# Altium integrated library TI_Logic_Gate.IntLib: 2017 symbols (part 49 of 56)
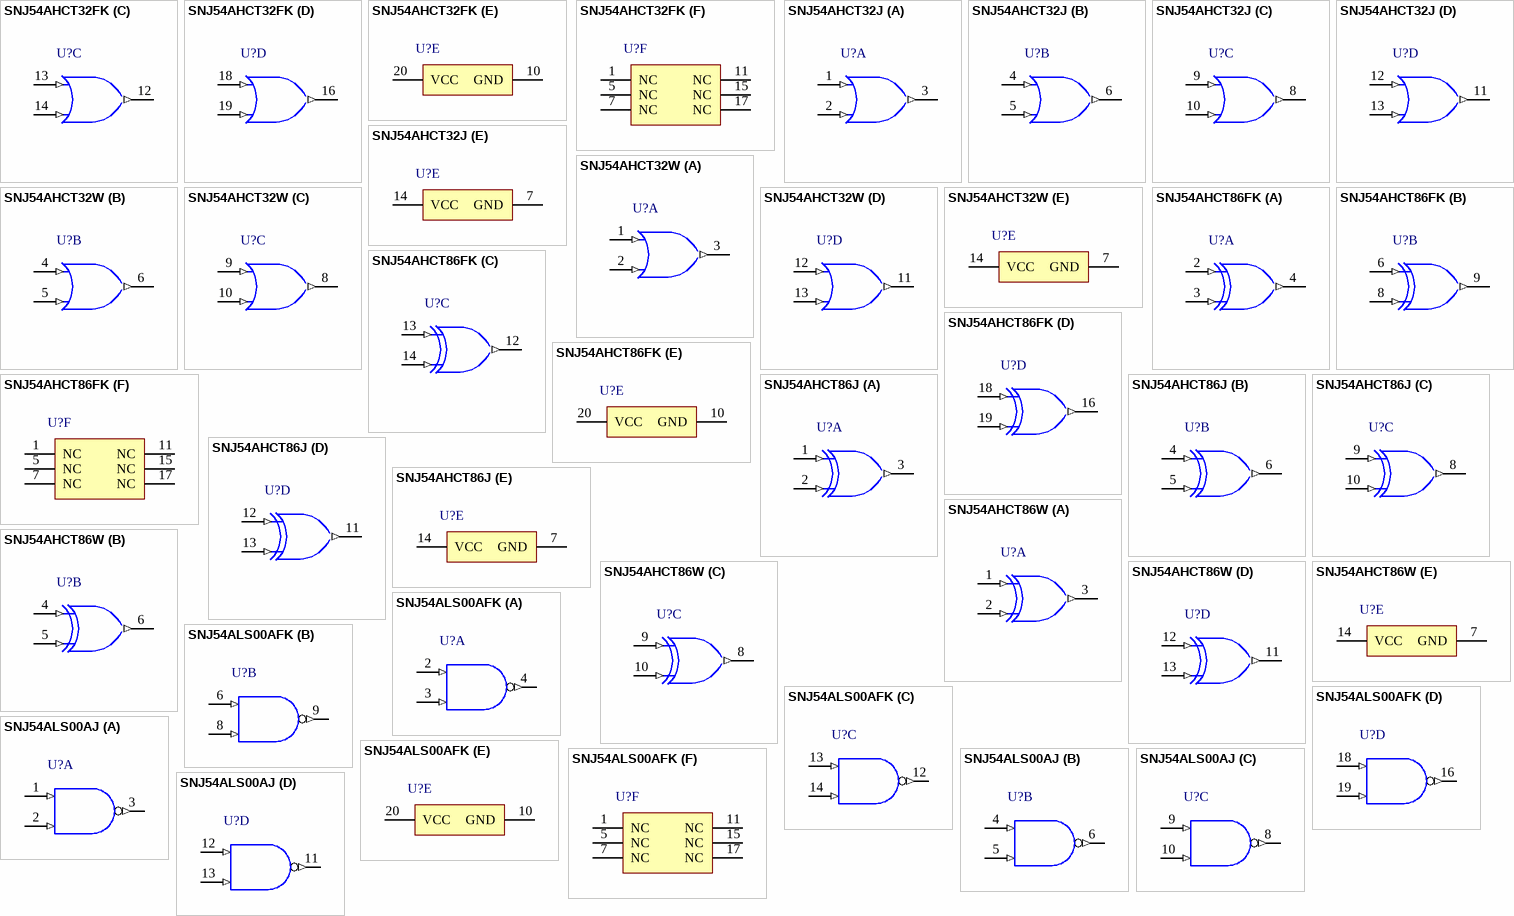
[diagram p273: symbols SNJ54AHCT32FK to SNJ54ALS00AJ]

## SNJ54AHCT86W
designator U?
Quadruple 2-Input Exclusive-OR Gates, W0014A, TUBE; Generic Part Number: SN54AHCT86; Manufacturer: Texas Instruments; PartNumber: SNJ54AHCT86W; VCC(Min)(V): 4.5; VCC(Max)(V): 5.5; Output Type: CMOS; Input Type: TTL; Rating: Military; Technology Family: AHCT; Schmitt Trigger: No; DatasheetVersion: SCLS250N; PackageReference: W0014A; Operating Temperature Range(C): -55 to 125; ComponentLink1Description: Manufacturer URL; ComponentLink1URL: http://www.ti.com/; ComponentLink2Description: Datasheet; ComponentLink2URL: http://www.ti.com/lit/ds/symlink/sn54ahct86.pdf
footprint W0014A_N (CFP, 14-Leads, Body 9.91x6.6mm, Pitch 1.27mm, IPC Medium Density)
footprint W0014A_M (CFP, 14-Leads, Body 9.91x6.6mm, Pitch 1.27mm, IPC Low Density)
footprint W0014A_L (CFP, 14-Leads, Body 9.91x6.6mm, Pitch 1.27mm, IPC High Density)
part A pins: 1 1A (in), 2 1B (in), 3 1Y (out)
part B pins: 4 2A (in), 5 2B (in), 6 2Y (out)
part C pins: 8 3Y (out), 9 3A (in), 10 3B (in)
part D pins: 11 4Y (out), 12 4A (in), 13 4B (in)
part E pins: 7 GND (power), 14 VCC (power)

## SNJ54ALS00AFK
designator U?
Quadruple 2-Input Positive-NAND Gates, FK0020A, TUBE; Generic Part Number: SN54ALS00A; Manufacturer: Texas Instruments; PartNumber: SNJ54ALS00AFK; VCC(Min)(V): 4.5; VCC(Max)(V): 5.5; Output Type: TTL; Rating: Military; Technology Family: ALS; Schmitt Trigger: No; DatasheetVersion: SDAS187A; PackageReference: FK0020A; Input Type: TTL; Operating Temperature Range(C): -55 to 125; Code_JEDEC: MS-004; ComponentLink1Description: Manufacturer URL; ComponentLink1URL: http://www.ti.com/; ComponentLink2Description: Datasheet; ComponentLink2URL: http://www.ti.com/lit/ds/symlink/sn54als00a.pdf; ComponentLink3Description: Package Specification; ComponentLink3URL: http://www.ti.com/lit/ml/mlcc006d/mlcc006d.pdf
footprint FK0020A_N (LCC, 20-Leads, Body 8.9x8.9mm, Pitch 1.27mm, IPC Medium Density)
footprint FK0020A_M (LCC, 20-Leads, Body 8.9x8.9mm, Pitch 1.27mm, IPC Low Density)
footprint FK0020A_L (LCC, 20-Leads, Body 8.9x8.9mm, Pitch 1.27mm, IPC High Density)
part A pins: 2 1A (in), 3 1B (in), 4 1Y (out)
part B pins: 6 2A (in), 8 2B (in), 9 2Y (out)
part C pins: 12 3Y (out), 13 3A (in), 14 3B (in)
part D pins: 16 4Y (out), 18 4A (in), 19 4B (in)
part E pins: 10 GND (power), 20 VCC (power)
part F pins: 1 NC, 5 NC, 7 NC, 11 NC, 15 NC, 17 NC

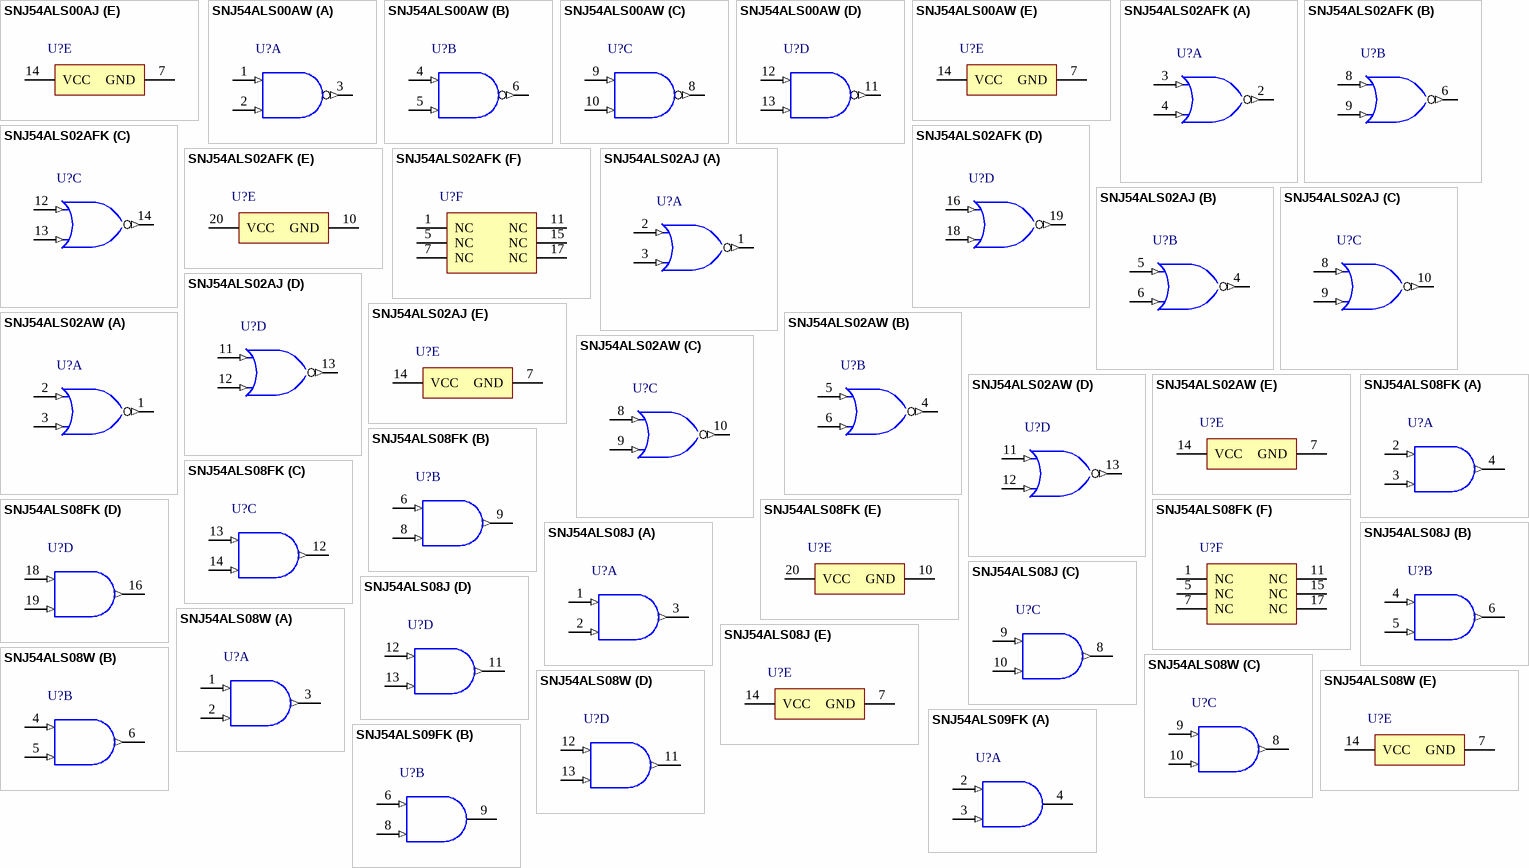
[diagram p193: symbols SNJ54ALS00AJ to SNJ54ALS09FK]

## SNJ54ALS00AJ
designator U?
Quadruple 2-Input Positive-NAND Gates, J0014A, TUBE; Generic Part Number: SN54ALS00A; Manufacturer: Texas Instruments; PartNumber: SNJ54ALS00AJ; VCC(Min)(V): 4.5; VCC(Max)(V): 5.5; Output Type: TTL; Rating: Military; Technology Family: ALS; Schmitt Trigger: No; DatasheetVersion: SDAS187A; PackageReference: J0014A; Input Type: TTL; Operating Temperature Range(C): -55 to 125; ComponentLink1Description: Manufacturer URL; ComponentLink1URL: http://www.ti.com/; ComponentLink2Description: Datasheet; ComponentLink2URL: http://www.ti.com/lit/ds/symlink/sn54als00a.pdf; ComponentLink3Description: Package Specification; ComponentLink3URL: http://www.ti.com/lit/ml/mcer002d/mcer002d.pdf
footprint J0014A (DIP, 14-Leads, Body 19.95x7.2mm, Pitch 2.54mm)
part A pins: 1 1A (in) "Gate 1 input", 2 1B (in) "Gate 1 input", 3 1Y (out) "Gate 1 output"
part B pins: 4 2A (in) "Gate 2 input", 5 2B (in) "Gate 2 input", 6 2Y (out) "Gate 2 output"
part C pins: 8 3Y (out) "Gate 3 output", 9 3A (in) "Gate 3 input", 10 3B (in) "Gate 3 input"
part D pins: 11 4Y (out) "Gate 4 output", 12 4A (in) "Gate 4 input", 13 4B (in) "Gate 4 input"
part E pins: 7 GND (power) "Ground Pin", 14 VCC (power) "Power Pin"

## SNJ54ALS00AW
designator U?
Quadruple 2-Input Positive-NAND Gates, W0014A, TUBE; Generic Part Number: SN54ALS00A; Manufacturer: Texas Instruments; PartNumber: SNJ54ALS00AW; VCC(Min)(V): 4.5; VCC(Max)(V): 5.5; Output Type: TTL; Rating: Military; Technology Family: ALS; Schmitt Trigger: No; DatasheetVersion: SDAS187A; PackageReference: W0014A; Input Type: TTL; Operating Temperature Range(C): -55 to 125; ComponentLink1Description: Manufacturer URL; ComponentLink1URL: http://www.ti.com/; ComponentLink2Description: Datasheet; ComponentLink2URL: http://www.ti.com/lit/ds/symlink/sn54als00a.pdf; ComponentLink3Description: Package Specification; ComponentLink3URL: http://www.ti.com/lit/ml/mcfp002c/mcfp002c.pdf
footprint W0014A_N (CFP, 14-Leads, Body 9.91x6.6mm, Pitch 1.27mm, IPC Medium Density)
footprint W0014A_M (CFP, 14-Leads, Body 9.91x6.6mm, Pitch 1.27mm, IPC Low Density)
footprint W0014A_L (CFP, 14-Leads, Body 9.91x6.6mm, Pitch 1.27mm, IPC High Density)
part A pins: 1 1A (in) "Gate 1 input", 2 1B (in) "Gate 1 input", 3 1Y (out) "Gate 1 output"
part B pins: 4 2A (in) "Gate 2 input", 5 2B (in) "Gate 2 input", 6 2Y (out) "Gate 2 output"
part C pins: 8 3Y (out) "Gate 3 output", 9 3A (in) "Gate 3 input", 10 3B (in) "Gate 3 input"
part D pins: 11 4Y (out) "Gate 4 output", 12 4A (in) "Gate 4 input", 13 4B (in) "Gate 4 input"
part E pins: 7 GND (power) "Ground Pin", 14 VCC (power) "Power Pin"

## SNJ54ALS02AFK
designator U?
Quadruple 2-Input Positive-NOR Gates, FK0020A, TUBE; Generic Part Number: SN54ALS02A; Manufacturer: Texas Instruments; PartNumber: SNJ54ALS02AFK; VCC(Min)(V): 4.5; VCC(Max)(V): 5.5; Output Type: TTL; Bits(#): 4; Rating: Military; tpd @ Nom Voltage(Max)(ns): 16; DatasheetVersion: SDAS111B; PackageReference: FK0020A; Input Type: TTL; Operating Temperature Range(C): -55 to 125; Code_JEDEC: MS-004; ComponentLink1Description: Manufacturer URL; ComponentLink1URL: http://www.ti.com/; ComponentLink2Description: Datasheet; ComponentLink2URL: http://www.ti.com/lit/ds/symlink/sn54als02a.pdf; ComponentLink3Description: Package Specification; ComponentLink3URL: http://www.ti.com/lit/ml/mlcc006d/mlcc006d.pdf
footprint FK0020A_N (LCC, 20-Leads, Body 8.9x8.9mm, Pitch 1.27mm, IPC Medium Density)
footprint FK0020A_M (LCC, 20-Leads, Body 8.9x8.9mm, Pitch 1.27mm, IPC Low Density)
footprint FK0020A_L (LCC, 20-Leads, Body 8.9x8.9mm, Pitch 1.27mm, IPC High Density)
part A pins: 2 1Y (out), 3 1A (in), 4 1B (in)
part B pins: 6 2Y (out), 8 2A (in), 9 2B (in)
part C pins: 12 3A (in), 13 3B (in), 14 3Y (out)
part D pins: 16 4A (in), 18 4B (in), 19 4Y (out)
part E pins: 10 GND (power), 20 VCC (power)
part F pins: 1 NC, 5 NC, 7 NC, 11 NC, 15 NC, 17 NC

## SNJ54ALS02AJ
designator U?
Quadruple 2-Input Positive-NOR Gates, J0014A, TUBE; Generic Part Number: SN54ALS02A; Manufacturer: Texas Instruments; PartNumber: SNJ54ALS02AJ; VCC(Min)(V): 4.5; VCC(Max)(V): 5.5; Output Type: TTL; Bits(#): 4; Rating: Military; tpd @ Nom Voltage(Max)(ns): 16; DatasheetVersion: SDAS111B; PackageReference: J0014A; Input Type: TTL; Operating Temperature Range(C): -55 to 125; ComponentLink1Description: Manufacturer URL; ComponentLink1URL: http://www.ti.com/; ComponentLink2Description: Datasheet; ComponentLink2URL: http://www.ti.com/lit/ds/symlink/sn54als02a.pdf; ComponentLink3Description: Package Specification; ComponentLink3URL: http://www.ti.com/lit/ml/mcer002d/mcer002d.pdf
footprint J0014A (DIP, 14-Leads, Body 19.95x7.2mm, Pitch 2.54mm)
part A pins: 1 1Y (out) "1Y output", 2 1A (in) "1A input", 3 1B (in) "1B input"
part B pins: 4 2Y (out) "2Y output", 5 2A (in) "2A input", 6 2B (in) "2B input"
part C pins: 8 3A (in) "3A input", 9 3B (in) "3B input", 10 3Y (out) "3Y output"
part D pins: 11 4A (in) "4A input", 12 4B (in) "4B input", 13 4Y (out) "4Y output"
part E pins: 7 GND (power), 14 VCC (power)

## SNJ54ALS02AW
designator U?
Quadruple 2-Input Positive-NOR Gates, W0014A, TUBE; Generic Part Number: SN54ALS02A; Manufacturer: Texas Instruments; PartNumber: SNJ54ALS02AW; VCC(Min)(V): 4.5; VCC(Max)(V): 5.5; Output Type: TTL; Bits(#): 4; Rating: Military; tpd @ Nom Voltage(Max)(ns): 16; DatasheetVersion: SDAS111B; PackageReference: W0014A; Input Type: TTL; Operating Temperature Range(C): -55 to 125; ComponentLink1Description: Manufacturer URL; ComponentLink1URL: http://www.ti.com/; ComponentLink2Description: Datasheet; ComponentLink2URL: http://www.ti.com/lit/ds/symlink/sn54als02a.pdf; ComponentLink3Description: Package Specification; ComponentLink3URL: http://www.ti.com/lit/ml/mcfp002c/mcfp002c.pdf
footprint W0014A_N (CFP, 14-Leads, Body 9.91x6.6mm, Pitch 1.27mm, IPC Medium Density)
footprint W0014A_M (CFP, 14-Leads, Body 9.91x6.6mm, Pitch 1.27mm, IPC Low Density)
footprint W0014A_L (CFP, 14-Leads, Body 9.91x6.6mm, Pitch 1.27mm, IPC High Density)
part A pins: 1 1Y (out) "1Y output", 2 1A (in) "1A input", 3 1B (in) "1B input"
part B pins: 4 2Y (out) "2Y output", 5 2A (in) "2A input", 6 2B (in) "2B input"
part C pins: 8 3A (in) "3A input", 9 3B (in) "3B input", 10 3Y (out) "3Y output"
part D pins: 11 4A (in) "4A input", 12 4B (in) "4B input", 13 4Y (out) "4Y output"
part E pins: 7 GND (power), 14 VCC (power)

## SNJ54ALS08FK
designator U?
Quadruple 2-Input Positive-AND Gates, FK0020A, TUBE; Generic Part Number: SN54ALS08; Manufacturer: Texas Instruments; PartNumber: SNJ54ALS08FK; VCC(Min)(V): 4.5; VCC(Max)(V): 5.5; Output Type: TTL; Rating: Military; Technology Family: ALS; Schmitt Trigger: No; tpd @ Nom Voltage(Max)(ns): 14; DatasheetVersion: SDAS191A; PackageReference: FK0020A; Input Type: TTL; Operating Temperature Range(C): -55 to 125; Code_JEDEC: MS-004; ComponentLink1Description: Manufacturer URL; ComponentLink1URL: http://www.ti.com/; ComponentLink2Description: Datasheet; ComponentLink2URL: http://www.ti.com/lit/ds/symlink/sn54als08.pdf; ComponentLink3Description: Package Specification; ComponentLink3URL: http://www.ti.com/lit/ml/mlcc006d/mlcc006d.pdf
footprint FK0020A_N (LCC, 20-Leads, Body 8.9x8.9mm, Pitch 1.27mm, IPC Medium Density)
footprint FK0020A_M (LCC, 20-Leads, Body 8.9x8.9mm, Pitch 1.27mm, IPC Low Density)
footprint FK0020A_L (LCC, 20-Leads, Body 8.9x8.9mm, Pitch 1.27mm, IPC High Density)
part A pins: 2 1A (in), 3 1B (in), 4 1Y (out)
part B pins: 6 2A (in), 8 2B (in), 9 2Y (out)
part C pins: 12 3Y (out), 13 3A (in), 14 3B (in)
part D pins: 16 4Y (out), 18 4A (in), 19 4B (in)
part E pins: 10 GND (power), 20 VCC (power)
part F pins: 1 NC, 5 NC, 7 NC, 11 NC, 15 NC, 17 NC

## SNJ54ALS08J
designator U?
Quadruple 2-Input Positive-AND Gates, J0014A, TUBE; Generic Part Number: SN54ALS08; Manufacturer: Texas Instruments; PartNumber: SNJ54ALS08J; VCC(Min)(V): 4.5; VCC(Max)(V): 5.5; Output Type: TTL; Rating: Military; Technology Family: ALS; Schmitt Trigger: No; tpd @ Nom Voltage(Max)(ns): 14; DatasheetVersion: SDAS191A; PackageReference: J0014A; Input Type: TTL; Operating Temperature Range(C): -55 to 125; ComponentLink1Description: Manufacturer URL; ComponentLink1URL: http://www.ti.com/; ComponentLink2Description: Datasheet; ComponentLink2URL: http://www.ti.com/lit/ds/symlink/sn54als08.pdf
footprint J0014A (DIP, 14-Leads, Body 19.95x7.2mm, Pitch 2.54mm)
part A pins: 1 1A (in), 2 1B (in), 3 1Y (out)
part B pins: 4 2A (in), 5 2B (in), 6 2Y (out)
part C pins: 8 3Y (out), 9 3A (in), 10 3B (in)
part D pins: 11 4Y (out), 12 4A (in), 13 4B (in)
part E pins: 7 GND (power), 14 VCC (power)

## SNJ54ALS08W
designator U?
Quadruple 2-Input Positive-AND Gates, W0014A, TUBE; Generic Part Number: SN54ALS08; Manufacturer: Texas Instruments; PartNumber: SNJ54ALS08W; VCC(Min)(V): 4.5; VCC(Max)(V): 5.5; Output Type: TTL; Rating: Military; Technology Family: ALS; Schmitt Trigger: No; tpd @ Nom Voltage(Max)(ns): 14; DatasheetVersion: SDAS191A; PackageReference: W0014A; Input Type: TTL; Operating Temperature Range(C): -55 to 125; ComponentLink1Description: Manufacturer URL; ComponentLink1URL: http://www.ti.com/; ComponentLink2Description: Datasheet; ComponentLink2URL: http://www.ti.com/lit/ds/symlink/sn54als08.pdf
footprint W0014A_N (CFP, 14-Leads, Body 9.91x6.6mm, Pitch 1.27mm, IPC Medium Density)
footprint W0014A_M (CFP, 14-Leads, Body 9.91x6.6mm, Pitch 1.27mm, IPC Low Density)
footprint W0014A_L (CFP, 14-Leads, Body 9.91x6.6mm, Pitch 1.27mm, IPC High Density)
part A pins: 1 1A (in), 2 1B (in), 3 1Y (out)
part B pins: 4 2A (in), 5 2B (in), 6 2Y (out)
part C pins: 8 3Y (out), 9 3A (in), 10 3B (in)
part D pins: 11 4Y (out), 12 4A (in), 13 4B (in)
part E pins: 7 GND (power), 14 VCC (power)

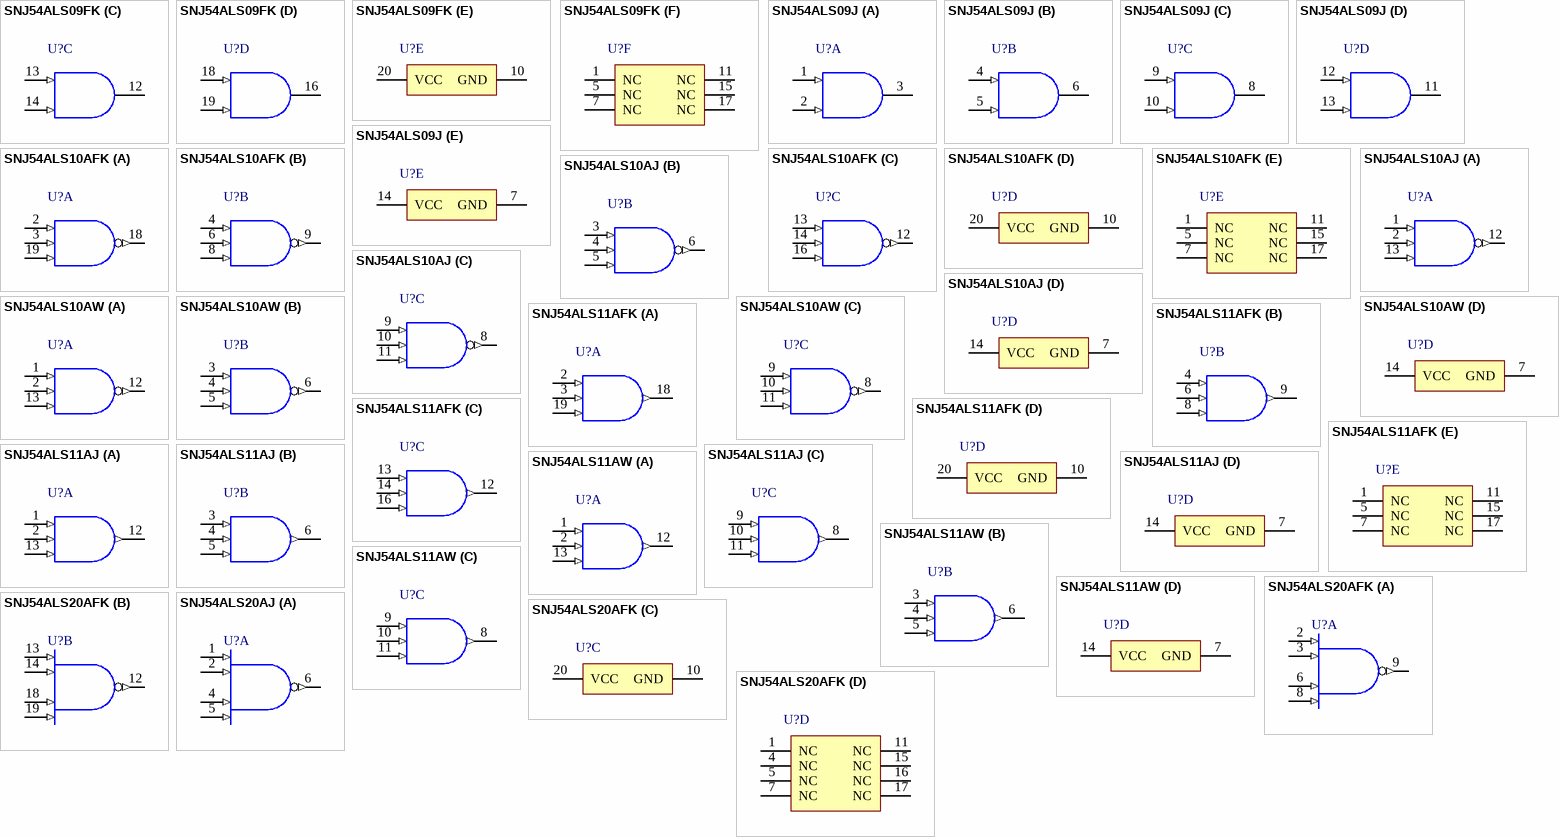
[diagram p194: symbols SNJ54ALS09FK to SNJ54ALS20AJ]

## SNJ54ALS09FK
designator U?
Quadruple 2-Input Positive-AND Gates With Open-Collector Outputs, FK0020A, TUBE; Generic Part Number: SN54ALS09; Manufacturer: Texas Instruments; PartNumber: SNJ54ALS09FK; VCC(Min)(V): 4.5; VCC(Max)(V): 5.5; Output Type: TTL; Rating: Military; Technology Family: ALS; Schmitt Trigger: No; Output Drive (IOL/IOH)(Max)(mA): -0.4/4; tpd @ Nom Voltage(Max)(ns): 69; DatasheetVersion: SDAS084B; PackageReference: FK0020A; Input Type: TTL; Operating Temperature Range(C): -55 to 125; Code_JEDEC: MS-004; ComponentLink1Description: Manufacturer URL; ComponentLink1URL: http://www.ti.com/; ComponentLink2Description: Datasheet; ComponentLink2URL: http://www.ti.com/lit/ds/symlink/sn54als09.pdf; ComponentLink3Description: Package Specification; ComponentLink3URL: http://www.ti.com/lit/ml/mlcc006d/mlcc006d.pdf
footprint FK0020A_N (LCC, 20-Leads, Body 8.9x8.9mm, Pitch 1.27mm, IPC Medium Density)
footprint FK0020A_M (LCC, 20-Leads, Body 8.9x8.9mm, Pitch 1.27mm, IPC Low Density)
footprint FK0020A_L (LCC, 20-Leads, Body 8.9x8.9mm, Pitch 1.27mm, IPC High Density)
part A pins: 2 1A (in), 3 1B (in), 4 1Y (oc)
part B pins: 6 2A (in), 8 2B (in), 9 2Y (oc)
part C pins: 12 3Y (oc), 13 3A (in), 14 3B (in)
part D pins: 16 4Y (oc), 18 4A (in), 19 4B (in)
part E pins: 10 GND (power), 20 VCC (power)
part F pins: 1 NC, 5 NC, 7 NC, 11 NC, 15 NC, 17 NC

## SNJ54ALS09J
designator U?
Quadruple 2-Input Positive-AND Gates With Open-Collector Outputs, J0014A, TUBE; Generic Part Number: SN54ALS09; Manufacturer: Texas Instruments; PartNumber: SNJ54ALS09J; VCC(Min)(V): 4.5; VCC(Max)(V): 5.5; Output Type: TTL; Rating: Military; Technology Family: ALS; Schmitt Trigger: No; Output Drive (IOL/IOH)(Max)(mA): -0.4/4; tpd @ Nom Voltage(Max)(ns): 69; DatasheetVersion: SDAS084B; PackageReference: J0014A; Input Type: TTL; Operating Temperature Range(C): -55 to 125; ComponentLink1Description: Manufacturer URL; ComponentLink1URL: http://www.ti.com/; ComponentLink2Description: Datasheet; ComponentLink2URL: http://www.ti.com/lit/ds/symlink/sn54als09.pdf
footprint J0014A (DIP, 14-Leads, Body 19.95x7.2mm, Pitch 2.54mm)
part A pins: 1 1A (in), 2 1B (in), 3 1Y (oc)
part B pins: 4 2A (in), 5 2B (in), 6 2Y (oc)
part C pins: 8 3Y (oc), 9 3A (in), 10 3B (in)
part D pins: 11 4Y (oc), 12 4A (in), 13 4B (in)
part E pins: 7 GND (power), 14 VCC (power)

## SNJ54ALS10AFK
designator U?
Triple 3-Input Positive-NAND Gates, FK0020A, TUBE; Generic Part Number: SN54ALS10A; Manufacturer: Texas Instruments; PartNumber: SNJ54ALS10AFK; VCC(Min)(V): 4.5; VCC(Max)(V): 5.5; Output Type: TTL; Rating: Military; Technology Family: ALS; Schmitt Trigger: No; DatasheetVersion: SDAS002B; PackageReference: FK0020A; Input Type: TTL; Operating Temperature Range(C): -55 to 125; Code_JEDEC: MS-004; ComponentLink1Description: Manufacturer URL; ComponentLink1URL: http://www.ti.com/; ComponentLink2Description: Datasheet; ComponentLink2URL: http://www.ti.com/lit/ds/symlink/sn54als10a.pdf; ComponentLink3Description: Package Specification; ComponentLink3URL: http://www.ti.com/lit/ml/mlcc006d/mlcc006d.pdf
footprint FK0020A_N (LCC, 20-Leads, Body 8.9x8.9mm, Pitch 1.27mm, IPC Medium Density)
footprint FK0020A_M (LCC, 20-Leads, Body 8.9x8.9mm, Pitch 1.27mm, IPC Low Density)
footprint FK0020A_L (LCC, 20-Leads, Body 8.9x8.9mm, Pitch 1.27mm, IPC High Density)
part A pins: 2 1A (in), 3 1B (in), 18 1Y (out), 19 1C (in)
part B pins: 4 2A (in), 6 2B (in), 8 2C (in), 9 2Y (out)
part C pins: 12 3Y (out), 13 3A (in), 14 3B (in), 16 3C (in)
part D pins: 10 GND (power), 20 VCC (power)
part E pins: 1 NC, 5 NC, 7 NC, 11 NC, 15 NC, 17 NC

## SNJ54ALS10AJ
designator U?
Triple 3-Input Positive-NAND Gates, J0014A, TUBE; Generic Part Number: SN54ALS10A; Manufacturer: Texas Instruments; PartNumber: SNJ54ALS10AJ; VCC(Min)(V): 4.5; VCC(Max)(V): 5.5; Output Type: TTL; Rating: Military; Technology Family: ALS; Schmitt Trigger: No; DatasheetVersion: SDAS002B; PackageReference: J0014A; Input Type: TTL; Operating Temperature Range(C): -55 to 125; ComponentLink1Description: Manufacturer URL; ComponentLink1URL: http://www.ti.com/; ComponentLink2Description: Datasheet; ComponentLink2URL: http://www.ti.com/lit/ds/symlink/sn54als10a.pdf; ComponentLink3Description: Package Specification; ComponentLink3URL: http://www.ti.com/lit/ml/mcer002d/mcer002d.pdf
footprint J0014A (DIP, 14-Leads, Body 19.95x7.2mm, Pitch 2.54mm)
part A pins: 1 1A (in), 2 1B (in), 12 1Y (out), 13 1C (in)
part B pins: 3 2A (in), 4 2B (in), 5 2C (in), 6 2Y (out)
part C pins: 8 3Y (out), 9 3A (in), 10 3B (in), 11 3C (in)
part D pins: 7 GND (power), 14 VCC (power)

## SNJ54ALS10AW
designator U?
Triple 3-Input Positive-NAND Gates, W0014A, TUBE; Generic Part Number: SN54ALS10A; Manufacturer: Texas Instruments; PartNumber: SNJ54ALS10AW; VCC(Min)(V): 4.5; VCC(Max)(V): 5.5; Output Type: TTL; Rating: Military; Technology Family: ALS; Schmitt Trigger: No; DatasheetVersion: SDAS002B; PackageReference: W0014A; Input Type: TTL; Operating Temperature Range(C): -55 to 125; ComponentLink1Description: Manufacturer URL; ComponentLink1URL: http://www.ti.com/; ComponentLink2Description: Datasheet; ComponentLink2URL: http://www.ti.com/lit/ds/symlink/sn54als10a.pdf; ComponentLink3Description: Package Specification; ComponentLink3URL: http://www.ti.com/lit/ml/mcfp002c/mcfp002c.pdf
footprint W0014A_N (CFP, 14-Leads, Body 9.91x6.6mm, Pitch 1.27mm, IPC Medium Density)
footprint W0014A_M (CFP, 14-Leads, Body 9.91x6.6mm, Pitch 1.27mm, IPC Low Density)
footprint W0014A_L (CFP, 14-Leads, Body 9.91x6.6mm, Pitch 1.27mm, IPC High Density)
part A pins: 1 1A (in), 2 1B (in), 12 1Y (out), 13 1C (in)
part B pins: 3 2A (in), 4 2B (in), 5 2C (in), 6 2Y (out)
part C pins: 8 3Y (out), 9 3A (in), 10 3B (in), 11 3C (in)
part D pins: 7 GND (power), 14 VCC (power)

## SNJ54ALS11AFK
designator U?
Triple 3-Input Positive-AND Gates, FK0020A, TUBE; Generic Part Number: SN54ALS11A; Manufacturer: Texas Instruments; PartNumber: SNJ54ALS11AFK; VCC(Min)(V): 4.5; VCC(Max)(V): 5.5; Output Type: TTL; Rating: Military; Technology Family: ALS; Schmitt Trigger: No; tpd @ Nom Voltage(Max)(ns): 14; DatasheetVersion: SDAS009D; PackageReference: FK0020A; Input Type: TTL; Operating Temperature Range(C): -55 to 125; Code_JEDEC: MS-004; ComponentLink1Description: Manufacturer URL; ComponentLink1URL: http://www.ti.com/; ComponentLink2Description: Datasheet; ComponentLink2URL: http://www.ti.com/lit/ds/symlink/sn54als11a.pdf; ComponentLink3Description: Package Specification; ComponentLink3URL: http://www.ti.com/lit/ml/mlcc006d/mlcc006d.pdf
footprint FK0020A_N (LCC, 20-Leads, Body 8.9x8.9mm, Pitch 1.27mm, IPC Medium Density)
footprint FK0020A_M (LCC, 20-Leads, Body 8.9x8.9mm, Pitch 1.27mm, IPC Low Density)
footprint FK0020A_L (LCC, 20-Leads, Body 8.9x8.9mm, Pitch 1.27mm, IPC High Density)
part A pins: 2 1A (in), 3 1B (in), 18 1Y (out), 19 1C (in)
part B pins: 4 2A (in), 6 2B (in), 8 2C (in), 9 2Y (out)
part C pins: 12 3Y (out), 13 3A (in), 14 3B (in), 16 3C (in)
part D pins: 10 GND (power), 20 VCC (power)
part E pins: 1 NC, 5 NC, 7 NC, 11 NC, 15 NC, 17 NC

## SNJ54ALS11AJ
designator U?
Triple 3-Input Positive-AND Gates, J0014A, TUBE; Generic Part Number: SN54ALS11A; Manufacturer: Texas Instruments; PartNumber: SNJ54ALS11AJ; VCC(Min)(V): 4.5; VCC(Max)(V): 5.5; Output Type: TTL; Rating: Military; Technology Family: ALS; Schmitt Trigger: No; tpd @ Nom Voltage(Max)(ns): 14; DatasheetVersion: SDAS009D; PackageReference: J0014A; Input Type: TTL; Operating Temperature Range(C): -55 to 125; ComponentLink1Description: Manufacturer URL; ComponentLink1URL: http://www.ti.com/; ComponentLink2Description: Datasheet; ComponentLink2URL: http://www.ti.com/lit/ds/symlink/sn54als11a.pdf
footprint J0014A (DIP, 14-Leads, Body 19.95x7.2mm, Pitch 2.54mm)
part A pins: 1 1A (in), 2 1B (in), 12 1Y (out), 13 1C (in)
part B pins: 3 2A (in), 4 2B (in), 5 2C (in), 6 2Y (out)
part C pins: 8 3Y (out), 9 3A (in), 10 3B (in), 11 3C (in)
part D pins: 7 GND (power), 14 VCC (power)

## SNJ54ALS11AW
designator U?
Triple 3-Input Positive-AND Gates, W0014A, TUBE; Generic Part Number: SN54ALS11A; Manufacturer: Texas Instruments; PartNumber: SNJ54ALS11AW; VCC(Min)(V): 4.5; VCC(Max)(V): 5.5; Output Type: TTL; Rating: Military; Technology Family: ALS; Schmitt Trigger: No; tpd @ Nom Voltage(Max)(ns): 14; DatasheetVersion: SDAS009D; PackageReference: W0014A; Input Type: TTL; Operating Temperature Range(C): -55 to 125; ComponentLink1Description: Manufacturer URL; ComponentLink1URL: http://www.ti.com/; ComponentLink2Description: Datasheet; ComponentLink2URL: http://www.ti.com/lit/ds/symlink/sn54als11a.pdf
footprint W0014A_N (CFP, 14-Leads, Body 9.91x6.6mm, Pitch 1.27mm, IPC Medium Density)
footprint W0014A_M (CFP, 14-Leads, Body 9.91x6.6mm, Pitch 1.27mm, IPC Low Density)
footprint W0014A_L (CFP, 14-Leads, Body 9.91x6.6mm, Pitch 1.27mm, IPC High Density)
part A pins: 1 1A (in), 2 1B (in), 12 1Y (out), 13 1C (in)
part B pins: 3 2A (in), 4 2B (in), 5 2C (in), 6 2Y (out)
part C pins: 8 3Y (out), 9 3A (in), 10 3B (in), 11 3C (in)
part D pins: 7 GND (power), 14 VCC (power)

## SNJ54ALS20AFK
designator U?
Dual 4-Input Positive-NAND Gates, FK0020A, TUBE; Generic Part Number: SN54ALS20A; Manufacturer: Texas Instruments; PartNumber: SNJ54ALS20AFK; VCC(Min)(V): 4.5; VCC(Max)(V): 5.5; Output Type: TTL; Rating: Military; Technology Family: ALS; Schmitt Trigger: No; DatasheetVersion: SDAS192B; PackageReference: FK0020A; Input Type: TTL; Operating Temperature Range(C): -55 to 125; Code_JEDEC: MS-004; ComponentLink1Description: Manufacturer URL; ComponentLink1URL: http://www.ti.com/; ComponentLink2Description: Datasheet; ComponentLink2URL: http://www.ti.com/lit/ds/symlink/sn54als20a.pdf; ComponentLink3Description: Package Specification; ComponentLink3URL: http://www.ti.com/lit/ml/mlcc006d/mlcc006d.pdf
footprint FK0020A_N (LCC, 20-Leads, Body 8.9x8.9mm, Pitch 1.27mm, IPC Medium Density)
footprint FK0020A_M (LCC, 20-Leads, Body 8.9x8.9mm, Pitch 1.27mm, IPC Low Density)
footprint FK0020A_L (LCC, 20-Leads, Body 8.9x8.9mm, Pitch 1.27mm, IPC High Density)
part A pins: 2 1A (in), 3 1B (in), 6 1C (in), 8 1D (in), 9 ~{1Y} (out)
part B pins: 12 ~{2Y} (out), 13 2A (in), 14 2B (in), 18 2C (in), 19 2D (in)
part C pins: 10 GND (power), 20 VCC (power)
part D pins: 1 NC, 4 NC, 5 NC, 7 NC, 11 NC, 15 NC, 16 NC, 17 NC

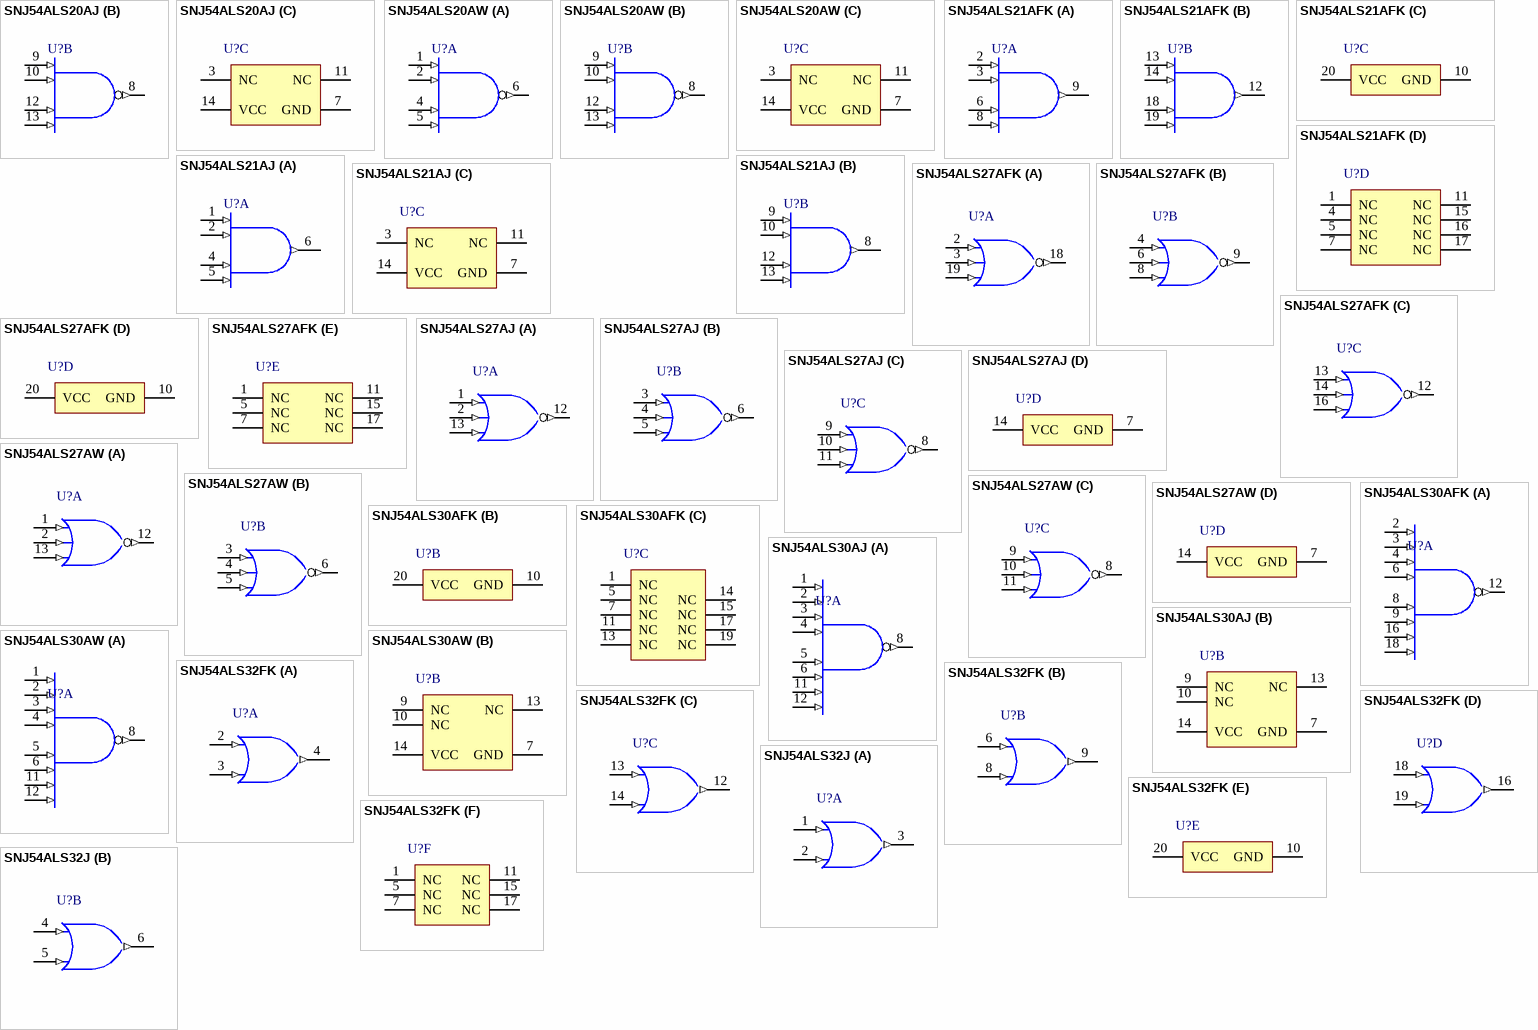
[diagram p195: symbols SNJ54ALS20AJ to SNJ54ALS32J]

## SNJ54ALS20AJ
designator U?
Dual 4-Input Positive-NAND Gates, J0014A, TUBE; Generic Part Number: SN54ALS20A; Manufacturer: Texas Instruments; PartNumber: SNJ54ALS20AJ; VCC(Min)(V): 4.5; VCC(Max)(V): 5.5; Output Type: TTL; Rating: Military; Technology Family: ALS; Schmitt Trigger: No; DatasheetVersion: SDAS192B; PackageReference: J0014A; Input Type: TTL; Operating Temperature Range(C): -55 to 125; ComponentLink1Description: Manufacturer URL; ComponentLink1URL: http://www.ti.com/; ComponentLink2Description: Datasheet; ComponentLink2URL: http://www.ti.com/lit/ds/symlink/sn54als20a.pdf; ComponentLink3Description: Package Specification; ComponentLink3URL: http://www.ti.com/lit/ml/mcer002d/mcer002d.pdf
footprint J0014A (DIP, 14-Leads, Body 19.95x7.2mm, Pitch 2.54mm)
part A pins: 1 1A (in), 2 1B (in), 4 1C (in), 5 1D (in), 6 1Y (out)
part B pins: 8 2Y (out), 9 2A (in), 10 2B (in), 12 2C (in), 13 2D (in)
part C pins: 3 NC, 7 GND (power), 11 NC, 14 VCC (power)

## SNJ54ALS20AW
designator U?
Dual 4-Input Positive-NAND Gates, W0014A, TUBE; Generic Part Number: SN54ALS20A; Manufacturer: Texas Instruments; PartNumber: SNJ54ALS20AW; VCC(Min)(V): 4.5; VCC(Max)(V): 5.5; Output Type: TTL; Rating: Military; Technology Family: ALS; Schmitt Trigger: No; DatasheetVersion: SDAS192B; PackageReference: W0014A; Input Type: TTL; Operating Temperature Range(C): -55 to 125; ComponentLink1Description: Manufacturer URL; ComponentLink1URL: http://www.ti.com/; ComponentLink2Description: Datasheet; ComponentLink2URL: http://www.ti.com/lit/ds/symlink/sn54als20a.pdf; ComponentLink3Description: Package Specification; ComponentLink3URL: http://www.ti.com/lit/ml/mcfp002c/mcfp002c.pdf
footprint W0014A_N (CFP, 14-Leads, Body 9.91x6.6mm, Pitch 1.27mm, IPC Medium Density)
footprint W0014A_M (CFP, 14-Leads, Body 9.91x6.6mm, Pitch 1.27mm, IPC Low Density)
footprint W0014A_L (CFP, 14-Leads, Body 9.91x6.6mm, Pitch 1.27mm, IPC High Density)
part A pins: 1 1A (in), 2 1B (in), 4 1C (in), 5 1D (in), 6 1Y (out)
part B pins: 8 2Y (out), 9 2A (in), 10 2B (in), 12 2C (in), 13 2D (in)
part C pins: 3 NC, 7 GND (power), 11 NC, 14 VCC (power)

## SNJ54ALS21AFK
designator U?
Dual 4-Input Positive-AND Gates, FK0020A, TUBE; Generic Part Number: SN54ALS21A; Manufacturer: Texas Instruments; PartNumber: SNJ54ALS21AFK; VCC(Min)(V): 4.5; VCC(Max)(V): 5.5; Output Type: TTL; Rating: Military; Technology Family: ALS; Schmitt Trigger: No; tpd @ Nom Voltage(Max)(ns): 18; DatasheetVersion: SDAS085B; PackageReference: FK0020A; Input Type: TTL; Operating Temperature Range(C): -55 to 125; Code_JEDEC: MS-004; ComponentLink1Description: Manufacturer URL; ComponentLink1URL: http://www.ti.com/; ComponentLink2Description: Datasheet; ComponentLink2URL: http://www.ti.com/lit/ds/symlink/sn54als21a.pdf; ComponentLink3Description: Package Specification; ComponentLink3URL: http://www.ti.com/lit/ml/mlcc006d/mlcc006d.pdf
footprint FK0020A_N (LCC, 20-Leads, Body 8.9x8.9mm, Pitch 1.27mm, IPC Medium Density)
footprint FK0020A_M (LCC, 20-Leads, Body 8.9x8.9mm, Pitch 1.27mm, IPC Low Density)
footprint FK0020A_L (LCC, 20-Leads, Body 8.9x8.9mm, Pitch 1.27mm, IPC High Density)
part A pins: 2 1A (in), 3 1B (in), 6 1C (in), 8 1D (in), 9 1Y (out)
part B pins: 12 2Y (out), 13 2A (in), 14 2B (in), 18 2C (in), 19 2D (in)
part C pins: 10 GND (power), 20 VCC (power)
part D pins: 1 NC, 4 NC, 5 NC, 7 NC, 11 NC, 15 NC, 16 NC, 17 NC

## SNJ54ALS21AJ
designator U?
Dual 4-Input Positive-AND Gates, J0014A, TUBE; Generic Part Number: SN54ALS21A; Manufacturer: Texas Instruments; PartNumber: SNJ54ALS21AJ; VCC(Min)(V): 4.5; VCC(Max)(V): 5.5; Output Type: TTL; Rating: Military; Technology Family: ALS; Schmitt Trigger: No; tpd @ Nom Voltage(Max)(ns): 18; DatasheetVersion: SDAS085B; PackageReference: J0014A; Input Type: TTL; Operating Temperature Range(C): -55 to 125; ComponentLink1Description: Manufacturer URL; ComponentLink1URL: http://www.ti.com/; ComponentLink2Description: Datasheet; ComponentLink2URL: http://www.ti.com/lit/ds/symlink/sn54als21a.pdf
footprint J0014A (DIP, 14-Leads, Body 19.95x7.2mm, Pitch 2.54mm)
part A pins: 1 1A (in), 2 1B (in), 4 1C (in), 5 1D (in), 6 1Y (out)
part B pins: 8 2Y (out), 9 2A (in), 10 2B (in), 12 2C (in), 13 2D (in)
part C pins: 3 NC, 7 GND (power), 11 NC, 14 VCC (power)

## SNJ54ALS27AFK
designator U?
Triple 3-Input Positive-NOR Gates, FK0020A, TUBE; Generic Part Number: SN54ALS27A; Manufacturer: Texas Instruments; PartNumber: SNJ54ALS27AFK; VCC(Min)(V): 4.5; VCC(Max)(V): 5.5; Output Type: TTL; Bits(#): 3; Rating: Military; tpd @ Nom Voltage(Max)(ns): 26; DatasheetVersion: SDAS112B; PackageReference: FK0020A; Input Type: TTL; Operating Temperature Range(C): -55 to 125; Code_JEDEC: MS-004; ComponentLink1Description: Manufacturer URL; ComponentLink1URL: http://www.ti.com/; ComponentLink2Description: Datasheet; ComponentLink2URL: http://www.ti.com/lit/ds/symlink/sn54als27a.pdf; ComponentLink3Description: Package Specification; ComponentLink3URL: http://www.ti.com/lit/ml/mlcc006d/mlcc006d.pdf
footprint FK0020A_N (LCC, 20-Leads, Body 8.9x8.9mm, Pitch 1.27mm, IPC Medium Density)
footprint FK0020A_M (LCC, 20-Leads, Body 8.9x8.9mm, Pitch 1.27mm, IPC Low Density)
footprint FK0020A_L (LCC, 20-Leads, Body 8.9x8.9mm, Pitch 1.27mm, IPC High Density)
part A pins: 2 1A (in), 3 1B (in), 18 1Y (out), 19 1C (in)
part B pins: 4 2A (in), 6 2B (in), 8 2C (in), 9 2Y (out)
part C pins: 12 3Y (out), 13 3A (in), 14 3B (in), 16 3C (in)
part D pins: 10 GND (power), 20 VCC (power)
part E pins: 1 NC, 5 NC, 7 NC, 11 NC, 15 NC, 17 NC

## SNJ54ALS27AJ
designator U?
Triple 3-Input Positive-NOR Gates, J0014A, TUBE; Generic Part Number: SN54ALS27A; Manufacturer: Texas Instruments; PartNumber: SNJ54ALS27AJ; VCC(Min)(V): 4.5; VCC(Max)(V): 5.5; Output Type: TTL; Bits(#): 3; Rating: Military; tpd @ Nom Voltage(Max)(ns): 26; DatasheetVersion: SDAS112B; PackageReference: J0014A; Input Type: TTL; Operating Temperature Range(C): -55 to 125; ComponentLink1Description: Manufacturer URL; ComponentLink1URL: http://www.ti.com/; ComponentLink2Description: Datasheet; ComponentLink2URL: http://www.ti.com/lit/ds/symlink/sn54als27a.pdf; ComponentLink3Description: Package Specification; ComponentLink3URL: http://www.ti.com/lit/ml/mcer002d/mcer002d.pdf
footprint J0014A (DIP, 14-Leads, Body 19.95x7.2mm, Pitch 2.54mm)
part A pins: 1 1A (in), 2 1B (in), 12 1Y (out), 13 1C (in)
part B pins: 3 2A (in), 4 2B (in), 5 2C (in), 6 2Y (out)
part C pins: 8 3Y (out), 9 3A (in), 10 3B (in), 11 3C (in)
part D pins: 7 GND (power), 14 VCC (power)

## SNJ54ALS27AW
designator U?
Triple 3-Input Positive-NOR Gates, W0014A, TUBE; Generic Part Number: SN54ALS27A; Manufacturer: Texas Instruments; PartNumber: SNJ54ALS27AW; VCC(Min)(V): 4.5; VCC(Max)(V): 5.5; Output Type: TTL; Bits(#): 3; Rating: Military; tpd @ Nom Voltage(Max)(ns): 26; DatasheetVersion: SDAS112B; PackageReference: W0014A; Input Type: TTL; Operating Temperature Range(C): -55 to 125; ComponentLink1Description: Manufacturer URL; ComponentLink1URL: http://www.ti.com/; ComponentLink2Description: Datasheet; ComponentLink2URL: http://www.ti.com/lit/ds/symlink/sn54als27a.pdf; ComponentLink3Description: Package Specification; ComponentLink3URL: http://www.ti.com/lit/ml/mcfp002c/mcfp002c.pdf
footprint W0014A_N (CFP, 14-Leads, Body 9.91x6.6mm, Pitch 1.27mm, IPC Medium Density)
footprint W0014A_M (CFP, 14-Leads, Body 9.91x6.6mm, Pitch 1.27mm, IPC Low Density)
footprint W0014A_L (CFP, 14-Leads, Body 9.91x6.6mm, Pitch 1.27mm, IPC High Density)
part A pins: 1 1A (in), 2 1B (in), 12 1Y (out), 13 1C (in)
part B pins: 3 2A (in), 4 2B (in), 5 2C (in), 6 2Y (out)
part C pins: 8 3Y (out), 9 3A (in), 10 3B (in), 11 3C (in)
part D pins: 7 GND (power), 14 VCC (power)

## SNJ54ALS30AFK
designator U?
8-Input Positive-NAND Gates, FK0020A, TUBE; Generic Part Number: SN54ALS30A; Manufacturer: Texas Instruments; PartNumber: SNJ54ALS30AFK; VCC(Min)(V): 4.5; VCC(Max)(V): 5.5; Output Type: TTL; Rating: Military; Technology Family: ALS; Schmitt Trigger: No; DatasheetVersion: SDAS010E; PackageReference: FK0020A; Input Type: TTL; Operating Temperature Range(C): -55 to 125; Code_JEDEC: MS-004; ComponentLink1Description: Manufacturer URL; ComponentLink1URL: http://www.ti.com/; ComponentLink2Description: Datasheet; ComponentLink2URL: http://www.ti.com/lit/ds/symlink/sn54als30a.pdf; ComponentLink3Description: Package Specification; ComponentLink3URL: http://www.ti.com/lit/ml/mlcc006d/mlcc006d.pdf
footprint FK0020A_N (LCC, 20-Leads, Body 8.9x8.9mm, Pitch 1.27mm, IPC Medium Density)
footprint FK0020A_M (LCC, 20-Leads, Body 8.9x8.9mm, Pitch 1.27mm, IPC Low Density)
footprint FK0020A_L (LCC, 20-Leads, Body 8.9x8.9mm, Pitch 1.27mm, IPC High Density)
part A pins: 2 A (in), 3 B (in), 4 C (in), 6 D (in), 8 E (in), 9 F (in), 12 Y (out), 16 G (in), 18 H (in)
part B pins: 10 GND (power), 20 VCC (power)
part C pins: 1 NC, 5 NC, 7 NC, 11 NC, 13 NC, 14 NC, 15 NC, 17 NC, 19 NC

## SNJ54ALS30AJ
designator U?
8-Input Positive-NAND Gates, J0014A, TUBE; Generic Part Number: SN54ALS30A; Manufacturer: Texas Instruments; PartNumber: SNJ54ALS30AJ; VCC(Min)(V): 4.5; VCC(Max)(V): 5.5; Output Type: TTL; Rating: Military; Technology Family: ALS; Schmitt Trigger: No; DatasheetVersion: SDAS010E; PackageReference: J0014A; Input Type: TTL; Operating Temperature Range(C): -55 to 125; ComponentLink1Description: Manufacturer URL; ComponentLink1URL: http://www.ti.com/; ComponentLink2Description: Datasheet; ComponentLink2URL: http://www.ti.com/lit/ds/symlink/sn54als30a.pdf; ComponentLink3Description: Package Specification; ComponentLink3URL: http://www.ti.com/lit/ml/mcer002d/mcer002d.pdf
footprint J0014A (DIP, 14-Leads, Body 19.95x7.2mm, Pitch 2.54mm)
part A pins: 1 A (in), 2 B (in), 3 C (in), 4 D (in), 5 E (in), 6 F (in), 8 ~{Y} (out), 11 G (in), 12 H (in)
part B pins: 7 GND (power), 9 NC, 10 NC, 13 NC, 14 VCC (power)

## SNJ54ALS30AW
designator U?
8-Input Positive-NAND Gates, W0014A, TUBE; Generic Part Number: SN54ALS30A; Manufacturer: Texas Instruments; PartNumber: SNJ54ALS30AW; VCC(Min)(V): 4.5; VCC(Max)(V): 5.5; Output Type: TTL; Rating: Military; Technology Family: ALS; Schmitt Trigger: No; DatasheetVersion: SDAS010E; PackageReference: W0014A; Input Type: TTL; Operating Temperature Range(C): -55 to 125; ComponentLink1Description: Manufacturer URL; ComponentLink1URL: http://www.ti.com/; ComponentLink2Description: Datasheet; ComponentLink2URL: http://www.ti.com/lit/ds/symlink/sn54als30a.pdf; ComponentLink3Description: Package Specification; ComponentLink3URL: http://www.ti.com/lit/ml/mcfp002c/mcfp002c.pdf
footprint W0014A_N (CFP, 14-Leads, Body 9.91x6.6mm, Pitch 1.27mm, IPC Medium Density)
footprint W0014A_M (CFP, 14-Leads, Body 9.91x6.6mm, Pitch 1.27mm, IPC Low Density)
footprint W0014A_L (CFP, 14-Leads, Body 9.91x6.6mm, Pitch 1.27mm, IPC High Density)
part A pins: 1 A (in), 2 B (in), 3 C (in), 4 D (in), 5 E (in), 6 F (in), 8 ~{Y} (out), 11 G (in), 12 H (in)
part B pins: 7 GND (power), 9 NC, 10 NC, 13 NC, 14 VCC (power)

## SNJ54ALS32FK
designator U?
Quadruple 2-Input Positive-OR Gates, FK0020A, TUBE; Generic Part Number: SN54ALS32; Manufacturer: Texas Instruments; PartNumber: SNJ54ALS32FK; VCC(Min)(V): 4.5; VCC(Max)(V): 5.5; Output Type: TTL; Bits(#): 4; Rating: Military; tpd @ Nom Voltage(Max)(ns): 18; DatasheetVersion: SDAS113B; PackageReference: FK0020A; Input Type: TTL; Operating Temperature Range(C): -55 to 125; Code_JEDEC: MS-004; ComponentLink1Description: Manufacturer URL; ComponentLink1URL: http://www.ti.com/; ComponentLink2Description: Datasheet; ComponentLink2URL: http://www.ti.com/lit/ds/symlink/sn54als32.pdf; ComponentLink3Description: Package Specification; ComponentLink3URL: http://www.ti.com/lit/ml/mlcc006d/mlcc006d.pdf
footprint FK0020A_N (LCC, 20-Leads, Body 8.9x8.9mm, Pitch 1.27mm, IPC Medium Density)
footprint FK0020A_M (LCC, 20-Leads, Body 8.9x8.9mm, Pitch 1.27mm, IPC Low Density)
footprint FK0020A_L (LCC, 20-Leads, Body 8.9x8.9mm, Pitch 1.27mm, IPC High Density)
part A pins: 2 1A (in), 3 1B (in), 4 1Y (out)
part B pins: 6 2A (in), 8 2B (in), 9 2Y (out)
part C pins: 12 3Y (out), 13 3A (in), 14 3B (in)
part D pins: 16 4Y (out), 18 4A (in), 19 4B (in)
part E pins: 10 GND (power), 20 VCC (power)
part F pins: 1 NC, 5 NC, 7 NC, 11 NC, 15 NC, 17 NC

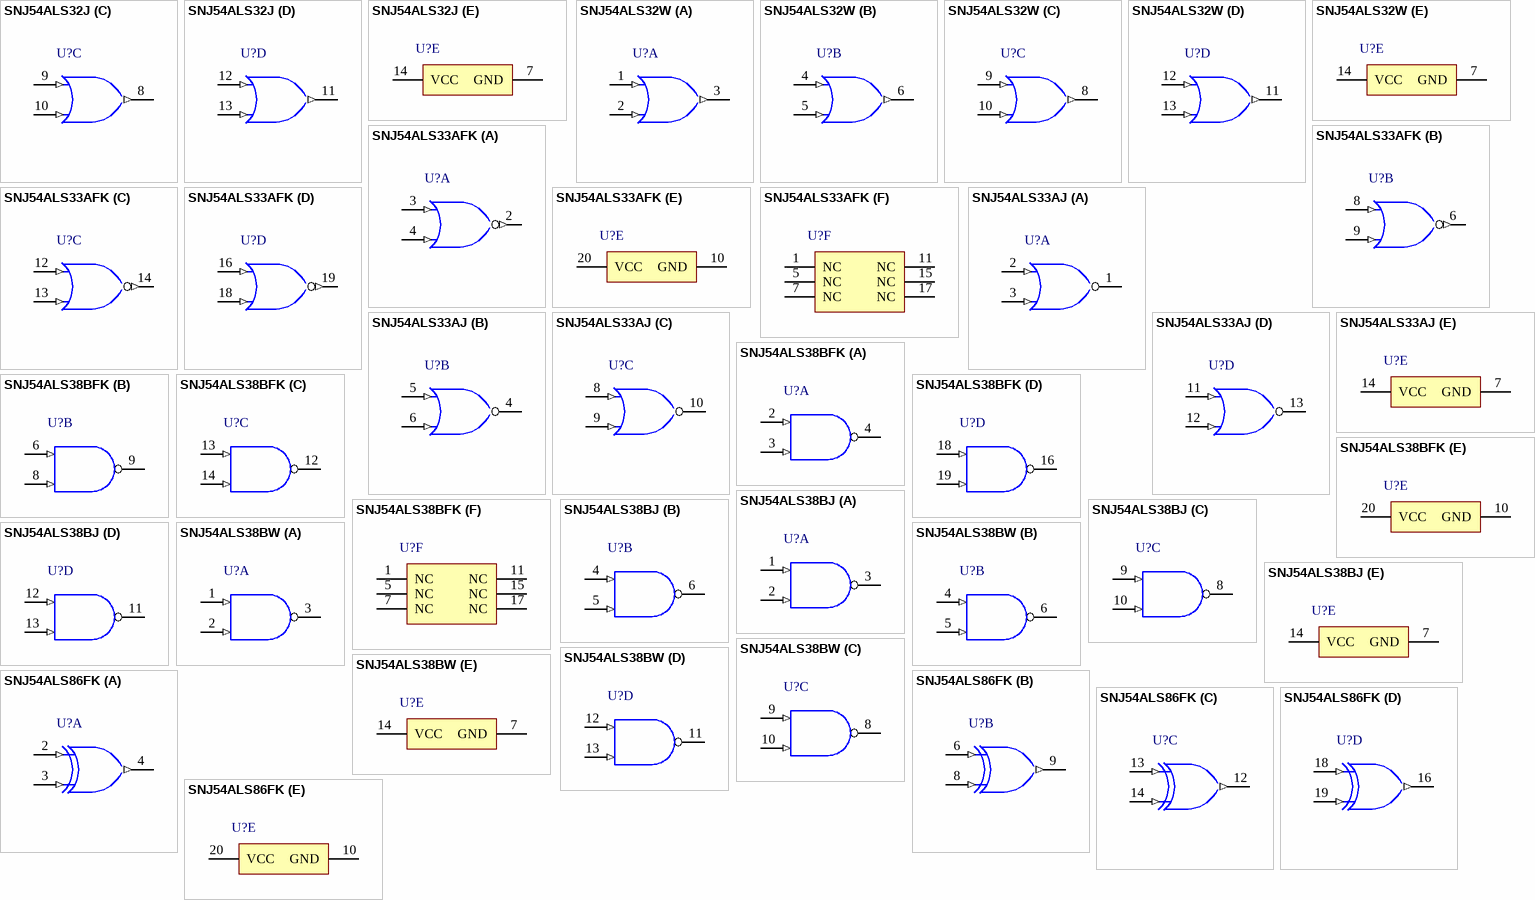
[diagram p196: symbols SNJ54ALS32J to SNJ54ALS86FK]

## SNJ54ALS32J
designator U?
Quadruple 2-Input Positive-OR Gates, J0014A, TUBE; Generic Part Number: SN54ALS32; Manufacturer: Texas Instruments; PartNumber: SNJ54ALS32J; VCC(Min)(V): 4.5; VCC(Max)(V): 5.5; Output Type: TTL; Bits(#): 4; Rating: Military; tpd @ Nom Voltage(Max)(ns): 18; DatasheetVersion: SDAS113B; PackageReference: J0014A; Input Type: TTL; Operating Temperature Range(C): -55 to 125; ComponentLink1Description: Manufacturer URL; ComponentLink1URL: http://www.ti.com/; ComponentLink2Description: Datasheet; ComponentLink2URL: http://www.ti.com/lit/ds/symlink/sn54als32.pdf; ComponentLink3Description: Package Specification; ComponentLink3URL: http://www.ti.com/lit/ml/mcer002d/mcer002d.pdf
footprint J0014A (DIP, 14-Leads, Body 19.95x7.2mm, Pitch 2.54mm)
part A pins: 1 1A (in), 2 1B (in), 3 1Y (out)
part B pins: 4 2A (in), 5 2B (in), 6 2Y (out)
part C pins: 8 3Y (out), 9 3A (in), 10 3B (in)
part D pins: 11 4Y (out), 12 4A (in), 13 4B (in)
part E pins: 7 GND (power), 14 VCC (power)

## SNJ54ALS32W
designator U?
Quadruple 2-Input Positive-OR Gates, W0014A, TUBE; Generic Part Number: SN54ALS32; Manufacturer: Texas Instruments; PartNumber: SNJ54ALS32W; VCC(Min)(V): 4.5; VCC(Max)(V): 5.5; Output Type: TTL; Bits(#): 4; Rating: Military; tpd @ Nom Voltage(Max)(ns): 18; DatasheetVersion: SDAS113B; PackageReference: W0014A; Input Type: TTL; Operating Temperature Range(C): -55 to 125; ComponentLink1Description: Manufacturer URL; ComponentLink1URL: http://www.ti.com/; ComponentLink2Description: Datasheet; ComponentLink2URL: http://www.ti.com/lit/ds/symlink/sn54als32.pdf; ComponentLink3Description: Package Specification; ComponentLink3URL: http://www.ti.com/lit/ml/mcfp002c/mcfp002c.pdf
footprint W0014A_N (CFP, 14-Leads, Body 9.91x6.6mm, Pitch 1.27mm, IPC Medium Density)
footprint W0014A_M (CFP, 14-Leads, Body 9.91x6.6mm, Pitch 1.27mm, IPC Low Density)
footprint W0014A_L (CFP, 14-Leads, Body 9.91x6.6mm, Pitch 1.27mm, IPC High Density)
part A pins: 1 1A (in), 2 1B (in), 3 1Y (out)
part B pins: 4 2A (in), 5 2B (in), 6 2Y (out)
part C pins: 8 3Y (out), 9 3A (in), 10 3B (in)
part D pins: 11 4Y (out), 12 4A (in), 13 4B (in)
part E pins: 7 GND (power), 14 VCC (power)

## SNJ54ALS33AFK
designator U?
Quadruple 2-Input Positive-NOR Buffers With Open-Colector Outputs, FK0020A, TUBE; Generic Part Number: SN54ALS33A; Manufacturer: Texas Instruments; PartNumber: SNJ54ALS33AFK; VCC(Min)(V): 4.5; VCC(Max)(V): 5.5; Output Type: TTL; Bits(#): 4; Rating: Military; tpd @ Nom Voltage(Max)(ns): 59; DatasheetVersion: SDAS034C; PackageReference: FK0020A; Input Type: TTL; Operating Temperature Range(C): -55 to 125; Code_JEDEC: MS-004; ComponentLink1Description: Manufacturer URL; ComponentLink1URL: http://www.ti.com/; ComponentLink2Description: Datasheet; ComponentLink2URL: http://www.ti.com/lit/ds/symlink/sn54als33a.pdf; ComponentLink3Description: Package Specification; ComponentLink3URL: http://www.ti.com/lit/ml/mlcc006d/mlcc006d.pdf
footprint FK0020A_N (LCC, 20-Leads, Body 8.9x8.9mm, Pitch 1.27mm, IPC Medium Density)
footprint FK0020A_M (LCC, 20-Leads, Body 8.9x8.9mm, Pitch 1.27mm, IPC Low Density)
footprint FK0020A_L (LCC, 20-Leads, Body 8.9x8.9mm, Pitch 1.27mm, IPC High Density)
part A pins: 2 1Y (out), 3 1A (in), 4 1B (in)
part B pins: 6 2Y (out), 8 2A (in), 9 2B (in)
part C pins: 12 3A (in), 13 3B (in), 14 3Y (out)
part D pins: 16 4A (in), 18 4B (in), 19 4Y (out)
part E pins: 10 GND (power), 20 VCC (power)
part F pins: 1 NC, 5 NC, 7 NC, 11 NC, 15 NC, 17 NC

## SNJ54ALS33AJ
designator U?
Quadruple 2-Input Positive-NOR Buffers With Open-Colector Outputs, J0014A, TUBE; Generic Part Number: SN54ALS33A; Manufacturer: Texas Instruments; PartNumber: SNJ54ALS33AJ; VCC(Min)(V): 4.5; VCC(Max)(V): 5.5; Output Type: TTL; Bits(#): 4; Rating: Military; tpd @ Nom Voltage(Max)(ns): 59; DatasheetVersion: SDAS034C; PackageReference: J0014A; Input Type: TTL; Operating Temperature Range(C): -55 to 125; ComponentLink1Description: Manufacturer URL; ComponentLink1URL: http://www.ti.com/; ComponentLink2Description: Datasheet; ComponentLink2URL: http://www.ti.com/lit/ds/symlink/sn54als33a.pdf; ComponentLink3Description: Package Specification; ComponentLink3URL: http://www.ti.com/lit/ml/mcer002d/mcer002d.pdf
footprint J0014A (DIP, 14-Leads, Body 19.95x7.2mm, Pitch 2.54mm)
part A pins: 1 1Y (oc), 2 1A (in), 3 1B (in)
part B pins: 4 2Y (oc), 5 2A (in), 6 2B (in)
part C pins: 8 3A (in), 9 3B (in), 10 3Y (oc)
part D pins: 11 4A (in), 12 4B (in), 13 4Y (oc)
part E pins: 7 GND (power), 14 VCC (power)

## SNJ54ALS38BFK
designator U?
Quadruple 2-Input Positive-NAND Buffers With Open-Collector Outputs, FK0020A, TUBE; Generic Part Number: SN54ALS38B; Manufacturer: Texas Instruments; PartNumber: SNJ54ALS38BFK; VCC(Min)(V): 4.5; VCC(Max)(V): 5.5; Output Type: TTL; Rating: Military; Technology Family: ALS; Schmitt Trigger: No; DatasheetVersion: SDAS196B; PackageReference: FK0020A; Input Type: TTL; Operating Temperature Range(C): -55 to 125; Code_JEDEC: MS-004; ComponentLink1Description: Manufacturer URL; ComponentLink1URL: http://www.ti.com/; ComponentLink2Description: Datasheet; ComponentLink2URL: http://www.ti.com/lit/ds/symlink/sn54als38b.pdf; ComponentLink3Description: Package Specification; ComponentLink3URL: http://www.ti.com/lit/ml/mlcc006d/mlcc006d.pdf
footprint FK0020A_N (LCC, 20-Leads, Body 8.9x8.9mm, Pitch 1.27mm, IPC Medium Density)
footprint FK0020A_M (LCC, 20-Leads, Body 8.9x8.9mm, Pitch 1.27mm, IPC Low Density)
footprint FK0020A_L (LCC, 20-Leads, Body 8.9x8.9mm, Pitch 1.27mm, IPC High Density)
part A pins: 2 1A (in), 3 1B (in), 4 1Y (oc)
part B pins: 6 2A (in), 8 2B (in), 9 2Y (oc)
part C pins: 12 3Y (oc), 13 3A (in), 14 3B (in)
part D pins: 16 4Y (oc), 18 4A (in), 19 4B (in)
part E pins: 10 GND (power), 20 VCC (power)
part F pins: 1 NC, 5 NC, 7 NC, 11 NC, 15 NC, 17 NC

## SNJ54ALS38BJ
designator U?
Quadruple 2-Input Positive-NAND Buffers With Open-Collector Outputs, J0014A, TUBE; Generic Part Number: SN54ALS38B; Manufacturer: Texas Instruments; PartNumber: SNJ54ALS38BJ; VCC(Min)(V): 4.5; VCC(Max)(V): 5.5; Output Type: TTL; Rating: Military; Technology Family: ALS; Schmitt Trigger: No; DatasheetVersion: SDAS196B; PackageReference: J0014A; Input Type: TTL; Operating Temperature Range(C): -55 to 125; ComponentLink1Description: Manufacturer URL; ComponentLink1URL: http://www.ti.com/; ComponentLink2Description: Datasheet; ComponentLink2URL: http://www.ti.com/lit/ds/symlink/sn54als38b.pdf; ComponentLink3Description: Package Specification; ComponentLink3URL: http://www.ti.com/lit/ml/mcer002d/mcer002d.pdf
footprint J0014A (DIP, 14-Leads, Body 19.95x7.2mm, Pitch 2.54mm)
part A pins: 1 1A (in), 2 1B (in), 3 1Y (oc)
part B pins: 4 2A (in), 5 2B (in), 6 2Y (oc)
part C pins: 8 3Y (oc), 9 3A (in), 10 3B (in)
part D pins: 11 4Y (oc), 12 4A (in), 13 4B (in)
part E pins: 7 GND (power), 14 VCC (power)

## SNJ54ALS38BW
designator U?
Quadruple 2-Input Positive-NAND Buffers With Open-Collector Outputs, W0014A, TUBE; Generic Part Number: SN54ALS38B; Manufacturer: Texas Instruments; PartNumber: SNJ54ALS38BW; VCC(Min)(V): 4.5; VCC(Max)(V): 5.5; Output Type: TTL; Rating: Military; Technology Family: ALS; Schmitt Trigger: No; DatasheetVersion: SDAS196B; PackageReference: W0014A; Input Type: TTL; Operating Temperature Range(C): -55 to 125; ComponentLink1Description: Manufacturer URL; ComponentLink1URL: http://www.ti.com/; ComponentLink2Description: Datasheet; ComponentLink2URL: http://www.ti.com/lit/ds/symlink/sn54als38b.pdf; ComponentLink3Description: Package Specification; ComponentLink3URL: http://www.ti.com/lit/ml/mcfp002c/mcfp002c.pdf
footprint W0014A_N (CFP, 14-Leads, Body 9.91x6.6mm, Pitch 1.27mm, IPC Medium Density)
footprint W0014A_M (CFP, 14-Leads, Body 9.91x6.6mm, Pitch 1.27mm, IPC Low Density)
footprint W0014A_L (CFP, 14-Leads, Body 9.91x6.6mm, Pitch 1.27mm, IPC High Density)
part A pins: 1 1A (in), 2 1B (in), 3 1Y (oc)
part B pins: 4 2A (in), 5 2B (in), 6 2Y (oc)
part C pins: 8 3Y (oc), 9 3A (in), 10 3B (in)
part D pins: 11 4Y (oc), 12 4A (in), 13 4B (in)
part E pins: 7 GND (power), 14 VCC (power)

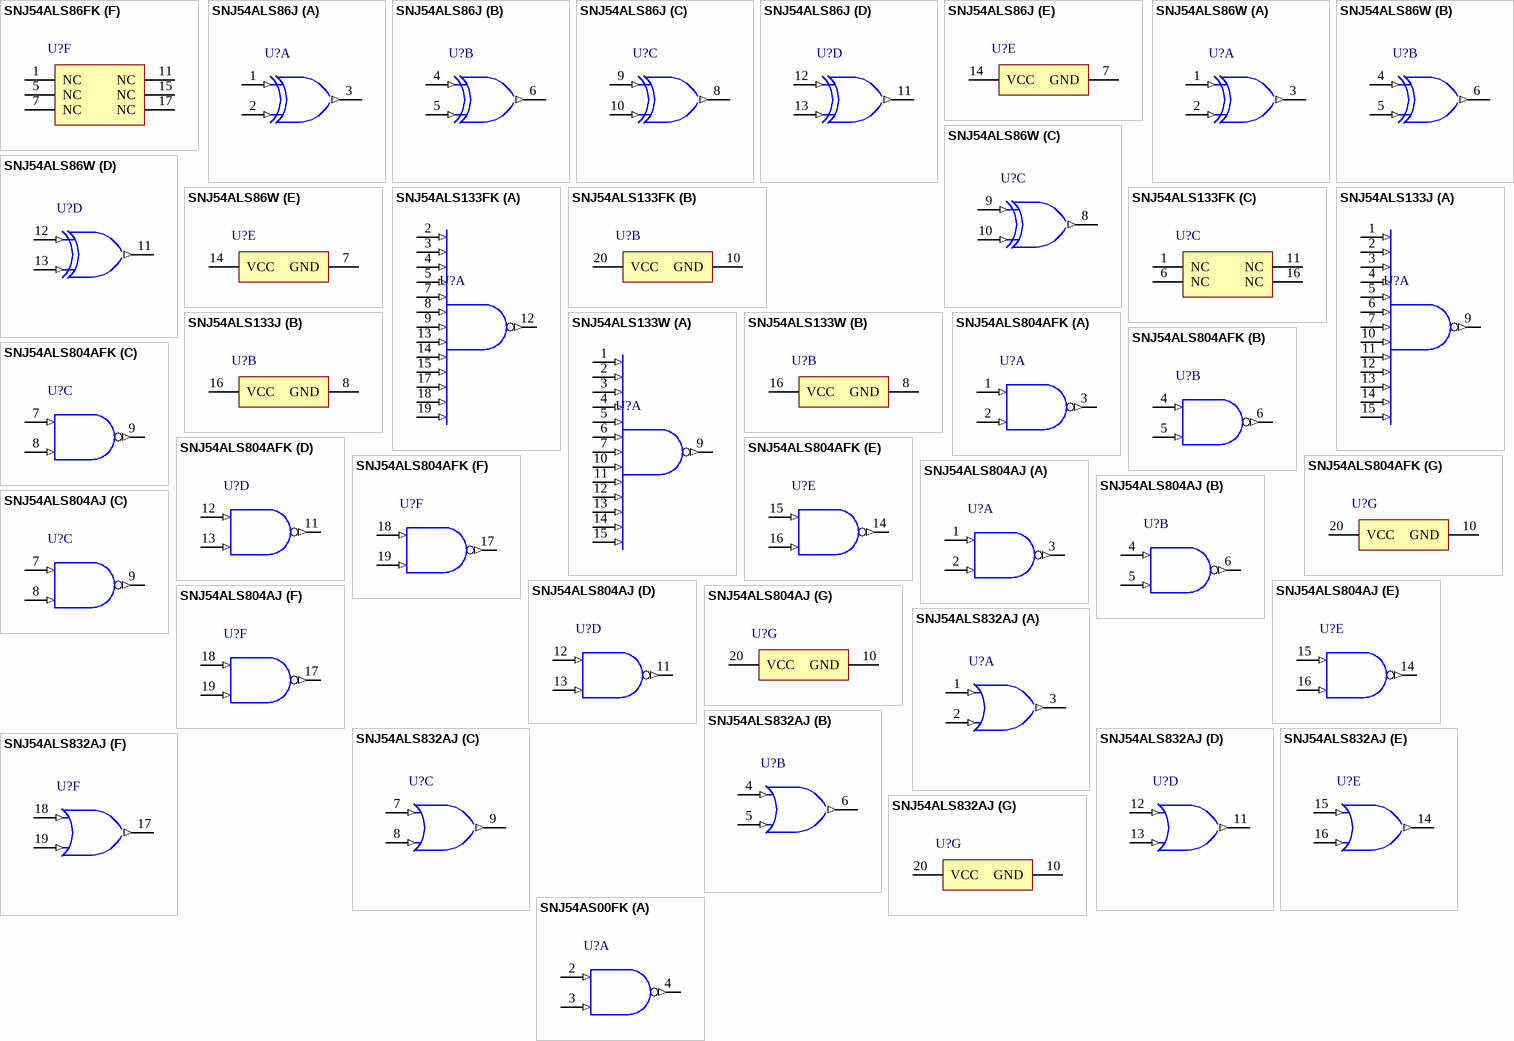
[diagram p197: symbols SNJ54ALS86FK to SNJ54AS00FK]

## SNJ54ALS86FK
designator U?
Quadruple 2-Input Exclusive-OR Gates, FK0020A, TUBE; Generic Part Number: SN54ALS86; Manufacturer: Texas Instruments; PartNumber: SNJ54ALS86FK; VCC(Min)(V): 4.5; VCC(Max)(V): 5.5; Output Type: TTL; Rating: Military; Technology Family: ALS; Schmitt Trigger: No; DatasheetVersion: SDAS006B; PackageReference: FK0020A; Input Type: TTL; Operating Temperature Range(C): -55 to 125; Code_JEDEC: MS-004; ComponentLink1Description: Manufacturer URL; ComponentLink1URL: http://www.ti.com/; ComponentLink2Description: Datasheet; ComponentLink2URL: http://www.ti.com/lit/ds/symlink/sn54als86.pdf; ComponentLink3Description: Package Specification; ComponentLink3URL: http://www.ti.com/lit/ml/mlcc006d/mlcc006d.pdf
footprint FK0020A_N (LCC, 20-Leads, Body 8.9x8.9mm, Pitch 1.27mm, IPC Medium Density)
footprint FK0020A_M (LCC, 20-Leads, Body 8.9x8.9mm, Pitch 1.27mm, IPC Low Density)
footprint FK0020A_L (LCC, 20-Leads, Body 8.9x8.9mm, Pitch 1.27mm, IPC High Density)
part A pins: 2 1A (in), 3 1B (in), 4 1Y (out)
part B pins: 6 2A (in), 8 2B (in), 9 2Y (out)
part C pins: 12 3Y (out), 13 3A (in), 14 3B (in)
part D pins: 16 4Y (out), 18 4A (in), 19 4B (in)
part E pins: 10 GND (power), 20 VCC (power)
part F pins: 1 NC, 5 NC, 7 NC, 11 NC, 15 NC, 17 NC

## SNJ54ALS86J
designator U?
Quadruple 2-Input Exclusive-OR Gates, J0014A, TUBE; Generic Part Number: SN54ALS86; Manufacturer: Texas Instruments; PartNumber: SNJ54ALS86J; VCC(Min)(V): 4.5; VCC(Max)(V): 5.5; Output Type: TTL; Rating: Military; Technology Family: ALS; Schmitt Trigger: No; DatasheetVersion: SDAS006B; PackageReference: J0014A; Input Type: TTL; Operating Temperature Range(C): -55 to 125; ComponentLink1Description: Manufacturer URL; ComponentLink1URL: http://www.ti.com/; ComponentLink2Description: Datasheet; ComponentLink2URL: http://www.ti.com/lit/ds/symlink/sn54als86.pdf
footprint J0014A (DIP, 14-Leads, Body 19.95x7.2mm, Pitch 2.54mm)
part A pins: 1 1A (in), 2 1B (in), 3 1Y (out)
part B pins: 4 2A (in), 5 2B (in), 6 2Y (out)
part C pins: 8 3Y (out), 9 3A (in), 10 3B (in)
part D pins: 11 4Y (out), 12 4A (in), 13 4B (in)
part E pins: 7 GND (power), 14 VCC (power)

## SNJ54ALS86W
designator U?
Quadruple 2-Input Exclusive-OR Gates, W0014A, TUBE; Generic Part Number: SN54ALS86; Manufacturer: Texas Instruments; PartNumber: SNJ54ALS86W; VCC(Min)(V): 4.5; VCC(Max)(V): 5.5; Output Type: TTL; Rating: Military; Technology Family: ALS; Schmitt Trigger: No; DatasheetVersion: SDAS006B; PackageReference: W0014A; Input Type: TTL; Operating Temperature Range(C): -55 to 125; ComponentLink1Description: Manufacturer URL; ComponentLink1URL: http://www.ti.com/; ComponentLink2Description: Datasheet; ComponentLink2URL: http://www.ti.com/lit/ds/symlink/sn54als86.pdf
footprint W0014A_N (CFP, 14-Leads, Body 9.91x6.6mm, Pitch 1.27mm, IPC Medium Density)
footprint W0014A_M (CFP, 14-Leads, Body 9.91x6.6mm, Pitch 1.27mm, IPC Low Density)
footprint W0014A_L (CFP, 14-Leads, Body 9.91x6.6mm, Pitch 1.27mm, IPC High Density)
part A pins: 1 1A (in), 2 1B (in), 3 1Y (out)
part B pins: 4 2A (in), 5 2B (in), 6 2Y (out)
part C pins: 8 3Y (out), 9 3A (in), 10 3B (in)
part D pins: 11 4Y (out), 12 4A (in), 13 4B (in)
part E pins: 7 GND (power), 14 VCC (power)

## SNJ54ALS133FK
designator U?
13-Input Positive-NAND Gates, FK0020A, TUBE; Generic Part Number: SN54ALS133; Manufacturer: Texas Instruments; PartNumber: SNJ54ALS133FK; VCC(Min)(V): 4.5; VCC(Max)(V): 5.5; Output Type: TTL; Rating: Military; Technology Family: ALS; Schmitt Trigger: No; DatasheetVersion: SDAS202B; PackageReference: FK0020A; Input Type: TTL; Operating Temperature Range(C): -55 to 125; Code_JEDEC: MS-004; ComponentLink1Description: Manufacturer URL; ComponentLink1URL: http://www.ti.com/; ComponentLink2Description: Datasheet; ComponentLink2URL: http://www.ti.com/lit/ds/symlink/sn54als133.pdf; ComponentLink3Description: Package Specification; ComponentLink3URL: http://www.ti.com/lit/ml/mlcc006d/mlcc006d.pdf
footprint FK0020A_N (LCC, 20-Leads, Body 8.9x8.9mm, Pitch 1.27mm, IPC Medium Density)
footprint FK0020A_M (LCC, 20-Leads, Body 8.9x8.9mm, Pitch 1.27mm, IPC Low Density)
footprint FK0020A_L (LCC, 20-Leads, Body 8.9x8.9mm, Pitch 1.27mm, IPC High Density)
part A pins: 2 A (in), 3 B (in), 4 C (in), 5 D (in), 7 E (in), 8 F (in), 9 G (in), 12 ~{Y} (out), 13 H (in), 14 I (in), 15 J (in), 17 K (in), 18 L (in), 19 M (in)
part B pins: 10 GND (power), 20 VCC (power)
part C pins: 1 NC, 6 NC, 11 NC, 16 NC

## SNJ54ALS133J
designator U?
13-Input Positive-NAND Gates, J0016A, TUBE; Generic Part Number: SN54ALS133; Manufacturer: Texas Instruments; PartNumber: SNJ54ALS133J; VCC(Min)(V): 4.5; VCC(Max)(V): 5.5; Output Type: TTL; Rating: Military; Technology Family: ALS; Schmitt Trigger: No; DatasheetVersion: SDAS202B; PackageReference: J0016A; Input Type: TTL; Operating Temperature Range(C): -55 to 125; ComponentLink1Description: Manufacturer URL; ComponentLink1URL: http://www.ti.com/; ComponentLink2Description: Datasheet; ComponentLink2URL: http://www.ti.com/lit/ds/symlink/sn54als133.pdf; ComponentLink3Description: Package Specification; ComponentLink3URL: http://www.ti.com/lit/ml/mcer002d/mcer002d.pdf
footprint J0016A (DIP, 16-Leads, Body 21.35x7.2mm, Pitch 2.54mm)
part A pins: 1 A (in), 2 B (in), 3 C (in), 4 D (in), 5 E (in), 6 F (in), 7 G (in), 9 Y (out), 10 H (in), 11 I (in), 12 J (in), 13 K (in), 14 L (in), 15 M (in)
part B pins: 8 GND (power), 16 VCC (power)

## SNJ54ALS133W
designator U?
13-Input Positive-NAND Gates, W0016A, TUBE; Generic Part Number: SN54ALS133; Manufacturer: Texas Instruments; PartNumber: SNJ54ALS133W; VCC(Min)(V): 4.5; VCC(Max)(V): 5.5; Output Type: TTL; Rating: Military; Technology Family: ALS; Schmitt Trigger: No; DatasheetVersion: SDAS202B; PackageReference: W0016A; Input Type: TTL; Operating Temperature Range(C): -55 to 125; ComponentLink1Description: Manufacturer URL; ComponentLink1URL: http://www.ti.com/; ComponentLink2Description: Datasheet; ComponentLink2URL: http://www.ti.com/lit/ds/symlink/sn54als133.pdf; ComponentLink3Description: Package Specification; ComponentLink3URL: http://www.ti.com/lit/ml/mcfp004c/mcfp004c.pdf
footprint W0016A_N (CFP, 16-Leads, Body 10.92x7.24mm, Pitch 1.27mm, IPC Medium Density)
footprint W0016A_M (CFP, 16-Leads, Body 10.92x7.24mm, Pitch 1.27mm, IPC Low Density)
footprint W0016A_L (CFP, 16-Leads, Body 10.92x7.24mm, Pitch 1.27mm, IPC High Density)
part A pins: 1 A (in), 2 B (in), 3 C (in), 4 D (in), 5 E (in), 6 F (in), 7 G (in), 9 Y (out), 10 H (in), 11 I (in), 12 J (in), 13 K (in), 14 L (in), 15 M (in)
part B pins: 8 GND (power), 16 VCC (power)